# Altium schematic symbol library IC_XC9572XL.SchLib: 1 symbol
Pins are listed as number, name and electrical type; pins without a type are passive.

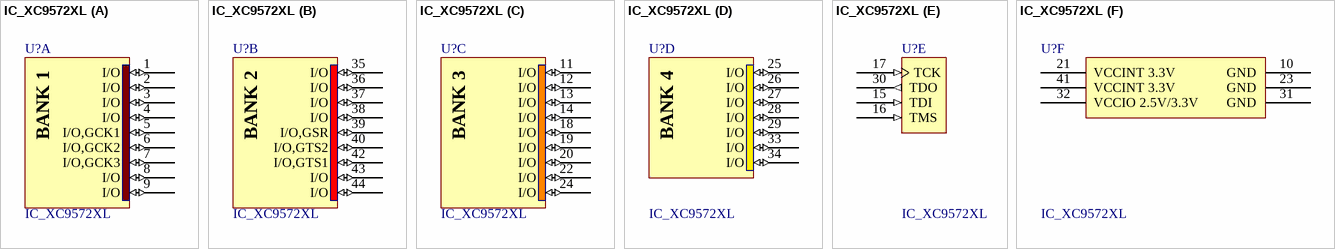
[diagram p0: symbol IC_XC9572XL]

## IC_XC9572XL
designator U?
FastFLASH XC900XL, 3.3V High-Performance 72 Macrocell CPLD, 34 User I/Os, 44-Pin PLCC, Speed Grade 10, Industrial Grade, Pb-Free
part A pins: 1 I/O (io), 2 I/O (io), 3 I/O (io), 4 I/O (io), 5 I/O,GCK1 (io), 6 I/O,GCK2 (io), 7 I/O,GCK3 (io), 8 I/O (io), 9 I/O (io)
part B pins: 35 I/O (io), 36 I/O (io), 37 I/O (io), 38 I/O (io), 39 I/O,GSR (io), 40 I/O,GTS2 (io), 42 I/O,GTS1 (io), 43 I/O (io), 44 I/O (io)
part C pins: 11 I/O (io), 12 I/O (io), 13 I/O (io), 14 I/O (io), 18 I/O (io), 19 I/O (io), 20 I/O (io), 22 I/O (io), 24 I/O (io)
part D pins: 25 I/O (io), 26 I/O (io), 27 I/O (io), 28 I/O (io), 29 I/O (io), 33 I/O (io), 34 I/O (io)
part E pins: 15 TDI (in), 16 TMS (in), 17 TCK (in), 30 TDO (out)
part F pins: 10 GND (power), 21 VCCINT 3.3V (power), 23 GND (power), 31 GND (power), 32 VCCIO 2.5V/3.3V (power), 41 VCCINT 3.3V (power)
part A text: BANK 1
part B text: BANK 2
part C text: BANK 3
part D text: BANK 4